# EAGLE library part MBED (library Boards)
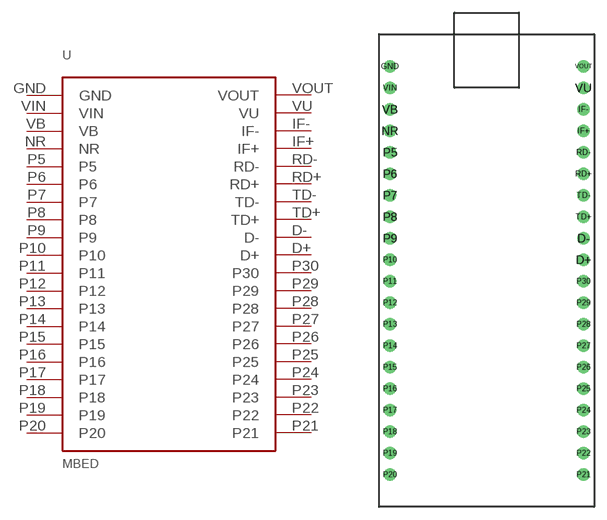
[diagram p5: symbol with the pads of MBED; footprint MBED]

Designator prefix -

## MBED  [MBED]
D+  D+
D-  D-
GND  GND  pwr
IF+  IF+
IF-  IF-
NR  NR
P5  P5
P6  P6
P7  P7
P8  P8
P9  P9
P10  P10
P11  P11
P12  P12
P13  P13
P14  P14
P15  P15
P16  P16
P17  P17
P18  P18
P19  P19
P20  P20
P21  P21
P22  P22
P23  P23
P24  P24
P25  P25
P26  P26
P27  P27
P28  P28
P29  P29
P30  P30
RD+  RD+
RD-  RD-
TD+  TD+
TD-  TD-
VB  VB  pwr
VIN  VIN  pwr
VOUT  VOUT  pwr
VU  VU  pwr

## Footprint MBED (pad centres in mm)
drill 1.016: D+ 11.43,0; D- 11.43,2.54; GND -11.43,22.86; IF+ 11.43,15.24; IF- 11.43,17.78; NR -11.43,15.24; P5 -11.43,12.7; P6 -11.43,10.16; P7 -11.43,7.62; P8 -11.43,5.08; P9 -11.43,2.54; P10 -11.43,0; P11 -11.43,-2.54; P12 -11.43,-5.08; P13 -11.43,-7.62; P14 -11.43,-10.16; P15 -11.43,-12.7; P16 -11.43,-15.24; P17 -11.43,-17.78; P18 -11.43,-20.32; P19 -11.43,-22.86; P20 -11.43,-25.4; P21 11.43,-25.4; P22 11.43,-22.86; P23 11.43,-20.32; P24 11.43,-17.78; P25 11.43,-15.24; P26 11.43,-12.7; P27 11.43,-10.16; P28 11.43,-7.62; P29 11.43,-5.08; P30 11.43,-2.54; RD+ 11.43,10.16; RD- 11.43,12.7; TD+ 11.43,5.08; TD- 11.43,7.62; VB -11.43,17.78; VIN -11.43,20.32; VOUT 11.43,22.86; VU 11.43,20.32